# EAGLE library part ACS711KEXLT (library PP_Sensors)
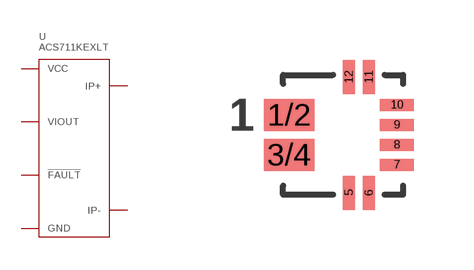
[diagram p11: symbol with the pads of ACS711KEXLT_EX-12; footprint ACS711KEXLT_EX-12]

Designator prefix U

## ACS711KEXLT-15AB-T (POPULATE: 1)  [ACS711KEXLT_EX-12]
1/2  IP+
3/4  IP-
5  GND
6  !FAULT
7  GND
8  GND
9  GND
10  GND
11  VIOUT
12  VCC

## Footprint ACS711KEXLT_EX-12 (pad centres in mm)
smd 1.27 x 0.8: 1/2 -1.35,0.5; 3/4 -1.35,-0.5
smd 0.3 x 0.85: 5 0.15,-1.45; 6 0.65,-1.45; 11 0.65,1.45; 12 0.15,1.45
smd 0.85 x 0.3: 7 1.35,-0.75; 8 1.35,-0.25; 9 1.35,0.25; 10 1.35,0.75